# Altium footprint library AMPHENOL_10129381-924003BLF.PcbLib: 1 footprints
Each footprint in its own frame and in the unit in brackets; x right, y up, seen from the top. Pads: shape width x height; smd on the part's side, far side on the other; paste and mask are expansions set on the pad; w line width, h text height; cw(c..) or ccw(c..) is an arc to the next point about the centre after c.
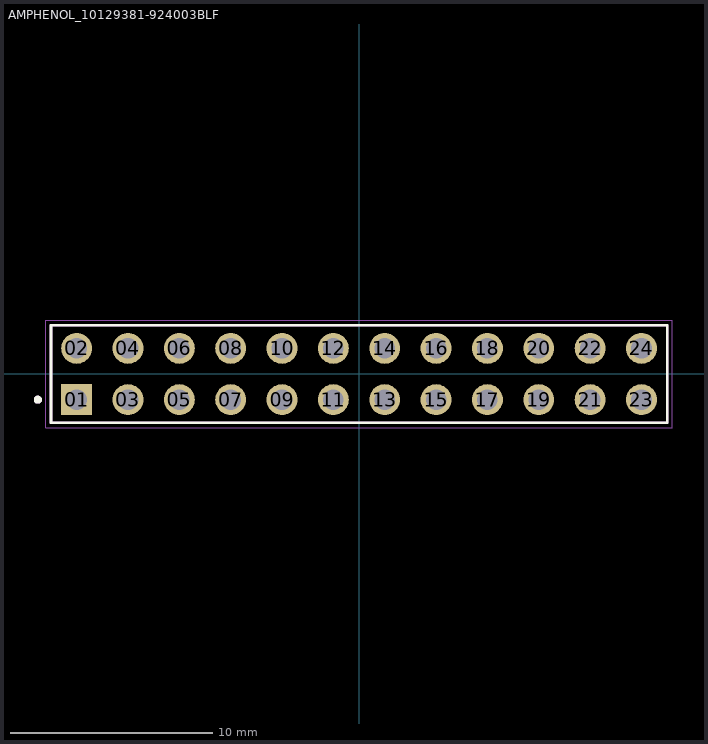
[diagram p0: the footprint, top view; thin cyan lines are the x and y axes]

## AMPHENOL_10129381-924003BLF [mm]
pads (24):
  rect 1.53x1.53 / inner round 1.53 / far side rect 1.53x1.53 hole 1.02: 01(-13.97,-1.27)
  round 1.53 hole 1.02: 02(-13.97,1.27) 03(-11.43,-1.27) 04(-11.43,1.27) 05(-8.89,-1.27) 06(-8.89,1.27) 07(-6.35,-1.27) 08(-6.35,1.27) 09(-3.81,-1.27) 10(-3.81,1.27) 11(-1.27,-1.27) 12(-1.27,1.27) 13(1.27,-1.27) 14(1.27,1.27) 15(3.81,-1.27) 16(3.81,1.27) 17(6.35,-1.27) 18(6.35,1.27) 19(8.89,-1.27) 20(8.89,1.27) 21(11.43,-1.27) 22(11.43,1.27) 23(13.97,-1.27) 24(13.97,1.27)
Top Overlay:
  circle w0.2: c-15.89,-1.27 r0.1
  lines w0.127: -15.24,-2.415 -15.24,2.415 15.24,2.415 15.24,-2.415 -15.24,-2.415
Mechanical 13:
  circle w0.2: c-15.89,-1.27 r0.1
  lines w0.127: -15.24,-2.415 -15.24,2.415 ; -15.24,-2.415 15.24,-2.415 ; -15.24,-2.415 -15.24,2.415 ; -15.24,2.415 15.24,2.415 ; -15.24,2.415 15.24,2.415 ; 15.24,-2.415 15.24,2.415 ; 15.24,-2.415 15.24,2.415
Mechanical 15:
  lines w0.05: -15.49,-2.665 -15.49,2.665 15.49,2.665 15.49,-2.665 -15.49,-2.665